# Altium schematic symbol library ADR381.SchLib: 1 symbol
Pins are listed as number, name and electrical type; pins without a type are passive.

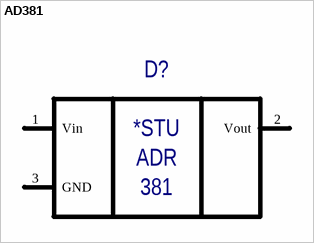
[diagram p0: symbol AD381]

## AD381
designator D?  (value not drawn)
Manufacturer: Analog Devices; Type: Микросхема; BCPId: *; Name: *; Package: SOT-23-3; ManufacturerPartNumber: AD381
footprint SOT23-3L (SOT23, 3-Leads, Body 2.9x1.3mm, Pitch 0.95mm, Lead Span 2.5mm, IPC High Density)
pins: 1 Vin (power) "Input", 2 Vout (power) "Output", 3 GND (power) "Ground"
text: *STU; ADR; 381